# Altium footprint library SKY6538311.PcbLib: 1 footprints
Each footprint in its own frame and in the unit in brackets; x right, y up, seen from the top. Pads: shape width x height; smd on the part's side, far side on the other; paste and mask are expansions set on the pad; w line width, h text height; cw(c..) or ccw(c..) is an arc to the next point about the centre after c.
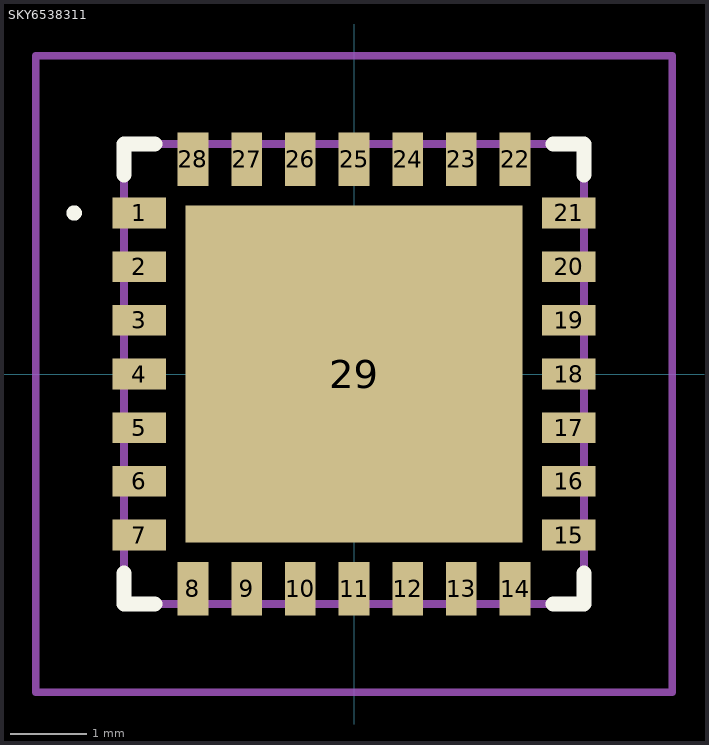
[diagram p0: the footprint, top view; thin cyan lines are the x and y axes]

## SKY6538311 [mm]
pads (29):
  rect 0.7x0.4 smd: 1(-2.8,2.1) 2(-2.8,1.4) 3(-2.8,0.7) 4(-2.8,0) 5(-2.8,-0.7) 6(-2.8,-1.4) 7(-2.8,-2.1) 15(2.8,-2.1) 16(2.8,-1.4) 17(2.8,-0.7) 18(2.8,0) 19(2.8,0.7) 20(2.8,1.4) 21(2.8,2.1)
  rect 0.4x0.7 smd: 8(-2.1,-2.8) 9(-1.4,-2.8) 10(-0.7,-2.8) 11(0,-2.8) 12(0.7,-2.8) 13(1.4,-2.8) 14(2.1,-2.8) 22(2.1,2.8) 23(1.4,2.8) 24(0.7,2.8) 25(0,2.8) 26(-0.7,2.8) 27(-1.4,2.8) 28(-2.1,2.8)
  rect 4.4x4.4 smd: 29(0,0)
Top Overlay:
  lines w0.1: -3.7,2.1 cw(c-3.65,2.1) -3.6,2.1 ; -3.7,2.1 -3.7,2.1 ; -3.7,2.1 ccw(c-3.65,2.1) -3.6,2.1 ; -3.6,2.1 -3.6,2.1
  lines w0.2: -3,-2.6 -3,-3 -2.6,-3 ; -3,2.6 -3,3 -2.6,3 ; 2.6,-3 3,-3 3,-2.6 ; 2.6,3 3,3 3,2.6
Mechanical 15:
  lines w0.1: -3,-3 3,-3 3,3 -3,3 -3,-3
Mechanical 20:
  lines w0.1: -4.15,-4.15 4.15,-4.15 4.15,4.15 -4.15,4.15 -4.15,-4.15